# Altium schematic symbol library 2020-03-17_20-39-12.SchLib: 2 symbols
Pins are listed as number, name and electrical type; pins without a type are passive.

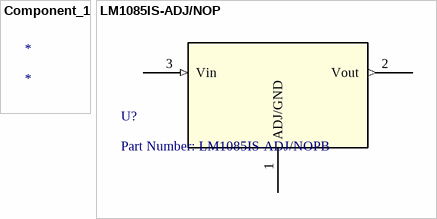
[diagram p0: symbols Component_1 to LM1085IS-ADJ/NOP]

## Component_1
designator *

## LM1085IS-ADJ/NOP
designator U?, comment Part Number: LM1085IS-ADJ/NOPB
No Description Available; Built_By: EMA_UL_Team; Vendor: Texas Instruments; Manufacturer_Part_Number: LM1085IS-ADJ/NOPB; Copyright: Copyright (C) 2018 Accelerated Designs. All rights reserved; RefDes: RefDes; Type: DEV; Value: Value
footprint TS3B
pins: 1 ADJ/GND, 2 Vout (out), 3 Vin (in)